# EAGLE library part ADS7042IDCUR (library NIPCB)
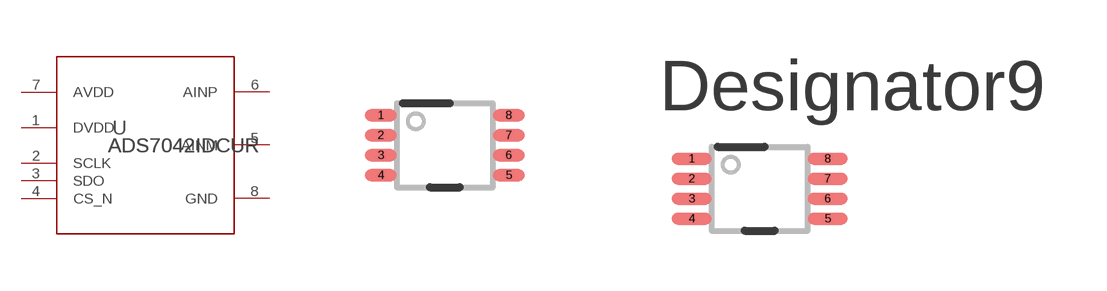
[diagram p13: symbol with the pads of DCU0008A_N; footprints DCU0008A_N, DCU0008A_M]

Designator prefix U

## ADS7042IDCURDCU0008A_N (COPYRIGHT: Copyright (C) 2024 Ultra Librarian. All rights reserved.; MANUFACTURER_PART_NUMBER: ADS7042IDCUR; MFR_NAME: Texas Instruments; REFDES: RefDes; TYPE: TYPE)  [DCU0008A_N]
1  DVDD  pwr
2  SCLK  in
3  SDO  out
4  CS_N  in
5  AINM  in
6  AINP  in
7  AVDD  pwr
8  GND  pwr

## ADS7042IDCURDCU0008A_M (COPYRIGHT: Copyright (C) 2024 Ultra Librarian. All rights reserved.; MANUFACTURER_PART_NUMBER: ADS7042IDCUR; MFR_NAME: Texas Instruments; REFDES: RefDes; TYPE: TYPE)  [DCU0008A_M]
Pads as for DCU0008A_N

## ADS7042IDCURDCU0008A_L (COPYRIGHT: Copyright (C) 2024 Ultra Librarian. All rights reserved.; MANUFACTURER_PART_NUMBER: ADS7042IDCUR; MFR_NAME: Texas Instruments; REFDES: RefDes; TYPE: TYPE)  [DCU0008A_L]
Pads as for DCU0008A_N

## Footprint DCU0008A_N (pad centres in mm)
smd 0.8 x 0.3: 1 -1.6,0.75; 2 -1.6,0.25; 3 -1.6,-0.25; 4 -1.6,-0.75; 5 1.6,-0.75; 6 1.6,-0.25; 7 1.6,0.25; 8 1.6,0.75

## Footprint DCU0008A_M (pad centres in mm)
smd 1 x 0.3: 1 -1.7,0.75; 2 -1.7,0.25; 3 -1.7,-0.25; 4 -1.7,-0.75; 5 1.7,-0.75; 6 1.7,-0.25; 7 1.7,0.25; 8 1.7,0.75

## Footprint DCU0008A_L (pad centres in mm)
smd 0.6 x 0.25: 1 -1.5,0.75; 2 -1.5,0.25; 3 -1.5,-0.25; 4 -1.5,-0.75; 5 1.5,-0.75; 6 1.5,-0.25; 7 1.5,0.25; 8 1.5,0.75